# EAGLE library part 691701340011B (library WR-TBL Pluggable Connector)
WR-TBL Serie 7013 - 3.81 mm Horizontal PCB Header THR Type KIND PROPERTIES Pitch 3.81 mm MATERIAL PROPERTIES Insulator Material LCP Insulator Flammability Rating UL94 V-0 Contact Material Brass Contact Plating Tin GENERAL INFORMATION Operating Temperature -40 up to +105 °C Compliance RoHS ELECTRICAL PROPERTIES IR cULus 10 A Working Voltage [cULus] 300 V (AC) Withstanding Voltage [cULus] 2500 V (AC) Contact Resistance [cULus] 20 mΩ CERTIFICATION cULus Approval E315414 <https://www.we-online.com/catalog/media/o33330v209%20Family_WR-TBL_6917013400xxB.jpg> Details see: https://www.we-online.com/catalog/en/TBL_3_81_THR_7013_HORIZONTAL_PCB_HEADER_6917013400XXB/ Updated by Ella Wu 2022-07-25 2022(C) Wurth Elektronik
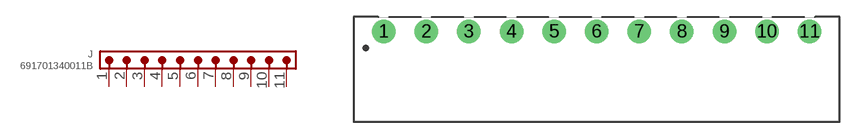
[diagram p177: symbol with the pads of 691701340011B; footprint 691701340011B]

Designator prefix J

## 691701340011B (DATASHEET-URL: https://www.we-online.com/redexpert/spec/691701340011B?ae; IR-UL: 10A; MOUNT: THT; PART-NUMBER: 691701340011B; PINS: 11; PITCH: 3.81mm; TYPE: Horizontal; VALUE: 691701340011B; WORKING-VOLTAGE-UL: 300V (AC))  [691701340011B]
1  1  pas
2  2  pas
3  3  pas
4  4  pas
5  5  pas
6  6  pas
7  7  pas
8  8  pas
9  9  pas
10  10  pas
11  11  pas

## Footprint 691701340011B (pad centres in mm)
WR-TBL Serie 7013 - 3.81 mm Horizontal PCB Header THR Type Max Height = 7.3mm , Pitch 3.81mm , 11pins
drill 1.4: 1 -19.05,0; 2 -15.24,0; 3 -11.43,0; 4 -7.62,0; 5 -3.81,0; 6 0,0; 7 3.81,0; 8 7.62,0; 9 11.43,0; 10 15.24,0; 11 19.05,0